# Altium footprint library Librerias PCB.PcbLib: 26 footprints (part 2 of 2)
Each footprint in its own frame and in the unit in brackets; x right, y up, seen from the top. Pads: shape width x height; smd on the part's side, far side on the other; paste and mask are expansions set on the pad; w line width, h text height; cw(c..) or ccw(c..) is an arc to the next point about the centre after c.
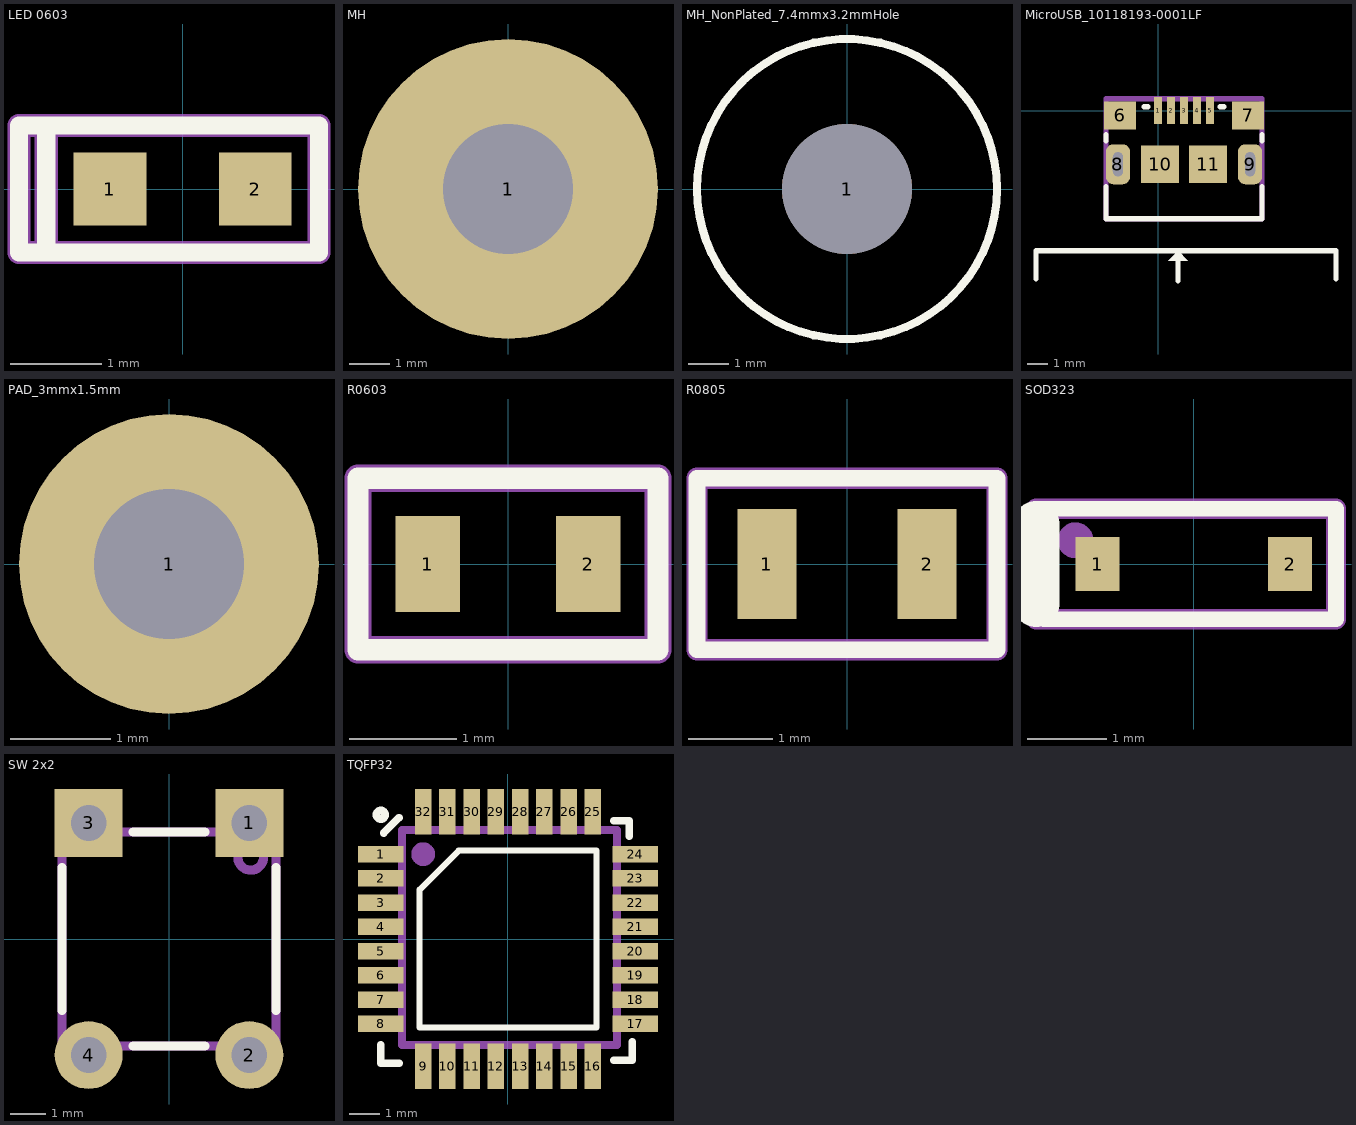
[diagram p1: the footprints below, top view; thin cyan lines are the x and y axes]

## LED 0603 [mm]
pads (2):
  rect 0.8x0.8 smd: 1(-0.8,0) 2(0.8,0)
Top Overlay:
  lines w0.2: -1.5,-0.7 -1.8,-0.7 -1.8,0.7 -1.5,0.7 ; -1.5,-0.7 -1.5,0.7 ; -1.5,-0.7 1.5,-0.7 1.5,0.7 -1.5,0.7
Mechanical 29:
  lines w0.254: -1.5,-0.7 -1.5,0.7 ; -1.8,-0.7 1.5,-0.7 1.5,0.7 -1.8,0.7 -1.8,-0.7
  text ".DESIGNATOR" at -0.1,-0.1 h1.52
3D body "User Library-LTST-C193KSKT.step": height 0.35, standoff 0, extent -0.8,-0.4 0.79,0.4

## MH [mm] "MH_7.4mmx3.2mmHOLE"
pads (1):
  round 7.4 hole 3.2: 1(0,0)

## MH_NonPlated_7.4mmx3.2mmHole [mm] "7.4mm Diameter x 3.2mm Hole_NP"
pads (1):
  round 3.2 hole 3.2 unplated: 1(0,0)
Top Overlay:
  circle w0.2: c0,0 r3.7

## MicroUSB_10118193-0001LF [mm]
pads (11):
  rect 0.4x1.35 smd mask+0.05: 1(0,0) 2(0.65,0) 3(1.3,0) 4(1.95,0) 5(2.6,0)
  rect 1.6x1.4 smd: 6(-1.9,-0.225) 7(4.5,-0.225)
  rrect60% 1.2x2 hole 0.5 slot 1.2 at 90 deg: 8(-2,-2.675) 9(4.6,-2.675)
  rect 1.9x1.9 smd: 10(0.1,-2.675) 11(2.5,-2.675)
Top Overlay:
  region: 1,-7 1.5,-7.5 0.5,-7.5
  lines w0.254: -6.1,-8.4 -6.1,-7 8.9,-7 8.9,-8.4 ; -2.6,-3.8 -2.6,-5.4 5.2,-5.4 5.2,-3.8 ; -2.6,-1.5 -2.6,-1.2 ; -0.7,0.2 -0.5,0.2 ; 1,-8.5 1,-7.5 ; 3.1,0.2 3.3,0.2 ; 5.2,-1.5 5.2,-1.2
Mechanical 29:
  lines w0.254: -2.6,-5.4 5.2,-5.4 5.2,0.6 -2.6,0.6 -2.6,-5.4
3D body "MicroUSB.stp": height 2.69, standoff -0.59, extent -2.725,-5.2 5.325,0.38

## PAD_3mmx1.5mm [mm] "PAD_HOLE_3mmx1.5mm"
pads (1):
  round 3 hole 1.5: 1(0,0)

## R0603 [mm]
pads (2):
  rect 0.6x0.9 smd: 1(-0.75,0) 2(0.75,0)
Top Overlay:
  lines w0.2: -1.4,-0.8 -1.4,0.8 1.4,0.8 1.4,-0.8 -1.4,-0.8
Mechanical 29:
  lines w0.254: -1.4,-0.8 -1.4,0.8 1.4,0.8 1.4,-0.8 -1.4,-0.8
  text ".Designator" at -0.1,-0.067 h1
3D body "User Library-R0603-2.step": height 0.45, standoff 0, extent -0.8,-0.4 0.8,0.4

## R0805 [mm]
pads (2):
  rect 0.7x1.3 smd: 1(-0.95,0) 2(0.95,0)
Top Overlay:
  lines w0.2: -1.778,-1.016 -1.778,1.016 1.778,1.016 1.778,-1.016 -1.778,-1.016
Mechanical 29:
  lines w0.254: -1.778,-1.016 -1.778,1.016 1.778,1.016 1.778,-1.016 -1.778,-1.016
  text ".Designator" at -0.127,-0.127 h0.76
3D body "User Library-RESC2012X05N.step": height 0.45, standoff 0, extent -1,-0.625 1,0.625

## SOD323 [mil]
pads (2):
  rect 22x27 smd: 1(-48,0) 2(48,0)
Top Overlay:
  lines w7.87: -78.74,27.56 70.87,27.56 70.87,-27.56 -74.8,-27.56
  lines w23.62: -78.74,-19.68 -78.74,19.68
Mechanical 29:
  circle w10: c-59.06,11.81 r3.94
  lines w10: -78.74,-27.56 -78.74,27.56 70.87,27.56 70.87,-27.56 -78.74,-27.56
  text ".Designator" at -35.43,20.99 h39.37
3D body "User Library-SOD-323.step": height 43.41, standoff 0, extent -51.18,-26.57 51.18,26.57

## SW 2x2 [mm]
pads (4):
  rect 1.9x1.9 hole 1: 1(2.25,3.25) 3(-2.25,3.25)
  round 1.9 hole 1: 2(2.25,-3.25) 4(-2.25,-3.25)
Top Overlay:
  lines w0.254: -3,-2 -3,2 ; -1,-3 1,-3 ; -1,3 1,3 ; 3,-2 3,2
Mechanical 29:
  circle w0.254: c2.286,2.286 r0.359
  lines w0.254: -3,-3 3,-3 3,3 -3,3 -3,-3
  text ".Designator" at -1.4,0.133 h1
3D body "SW 2x2.stp": height 7.01, standoff -3.49, extent -3.1,-3.95 3.1,3.95

## TQFP32 [mm]
pads (32):
  rect 1.5x0.55 smd mask+0.06: 1(-4.2,2.8) 2(-4.2,2) 3(-4.2,1.2) 4(-4.2,0.4) 5(-4.2,-0.4) 6(-4.2,-1.2) 7(-4.2,-2) 8(-4.2,-2.8) 17(4.2,-2.8) 18(4.2,-2) 19(4.2,-1.2) 20(4.2,-0.4) 21(4.2,0.4) 22(4.2,1.2) 23(4.2,2) 24(4.2,2.8)
  rect 0.55x1.5 smd mask+0.06: 9(-2.8,-4.2) 10(-2,-4.2) 11(-1.2,-4.2) 12(-0.4,-4.2) 13(0.4,-4.2) 14(1.2,-4.2) 15(2,-4.2) 16(2.8,-4.2) 25(2.8,4.2) 26(2,4.2) 27(1.2,4.2) 28(0.4,4.2) 29(-0.4,4.2) 30(-1.2,4.2) 31(-2,4.2) 32(-2.8,4.2)
Top Overlay:
  circle w0.254: c-4.2,4.1 r0.141
  lines w0.2: -2.915,-2.915 2.915,-2.915 2.915,2.915 -1.63,2.915 -2.915,1.63 -2.915,-2.915
  lines w0.254: -4.2,-3.5 -4.2,-4.1 -3.6,-4.1 ; -4.1,3.5 -3.6,4 ; 3.5,-4 4.1,-4 4.1,-3.4 ; 3.5,3.9 4,3.9 4,3.4
Mechanical 29:
  circle w0.5: c-2.8,2.8 r0.141
  lines w0.254: -3.5,-3.5 -3.5,-3.4 -3.5,3.6 3.6,3.6 3.6,-3.5 -3.5,-3.5
  text ".Designator" at -2.346,-1.938 h1.52
3D body "User Library-tqfp32-6.STEP": height 1.1, standoff -0.06, extent -4.503,-4.503 4.503,4.503